# EAGLE library part SN74ALVCH16374 (library PTS_Board_Lib)
Edge-Triggered D-Type Flip-Flop w/ 3-State Outputs
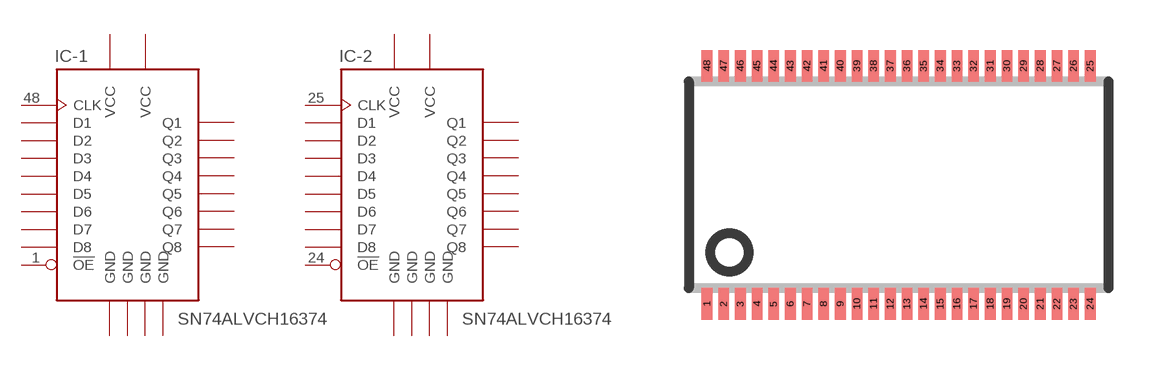
[diagram p0: symbol with the pads of TSSOP48; footprint TSSOP48]

Designator prefix IC; gates -1=SN74ALVCH16374 -2=SN74ALVCH16374

## SN74ALVCH16374DGG  [TSSOP48]
1  -1:!OE  in
2  -1:Q1  out
3  -1:Q2  out
4  -1:GND  pwr
5  -1:Q3  out
6  -1:Q4  out
7  -1:VCC  pwr
8  -1:Q5  out
9  -1:Q6  out
10  -1:GND  pwr
11  -1:Q7  out
12  -1:Q8  out
13  -2:Q1  out
14  -2:Q2  out
15  -2:GND  pwr
16  -2:Q3  out
17  -2:Q4  out
18  -2:VCC  pwr
19  -2:Q5  out
20  -2:Q6  out
21  -2:GND  pwr
22  -2:Q7  out
23  -2:Q8  out
24  -2:!OE  in
25  -2:CLK  in
26  -2:D8  in
27  -2:D7  in
28  -2:GND  pwr
29  -2:D6  in
30  -2:D5  in
31  -2:VCC  pwr
32  -2:D4  in
33  -2:D3  in
34  -2:GND  pwr
35  -2:D2  in
36  -2:D1  in
37  -1:D8  in
38  -1:D7  in
39  -1:GND  pwr
40  -1:D6  in
41  -1:D5  in
42  -1:VCC  pwr
43  -1:D4  in
44  -1:D3  in
45  -1:GND  pwr
46  -1:D2  in
47  -1:D1  in
48  -1:CLK  in

## Footprint TSSOP48 (pad centres in mm)
smd 0.32 x 0.95: 1 -5.75,-3.575; 2 -5.25,-3.575; 3 -4.75,-3.575; 4 -4.25,-3.575; 5 -3.75,-3.575; 6 -3.25,-3.575; 7 -2.75,-3.575; 8 -2.25,-3.575; 9 -1.75,-3.575; 10 -1.25,-3.575; 11 -0.75,-3.575; 12 -0.25,-3.575; 13 0.25,-3.575; 14 0.75,-3.575; 15 1.25,-3.575; 16 1.75,-3.575; 17 2.25,-3.575; 18 2.75,-3.575; 19 3.25,-3.575; 20 3.75,-3.575; 21 4.25,-3.575; 22 4.75,-3.575; 23 5.25,-3.575; 24 5.75,-3.575; 25 5.75,3.575; 26 5.25,3.575; 27 4.75,3.575; 28 4.25,3.575; 29 3.75,3.575; 30 3.25,3.575; 31 2.75,3.575; 32 2.25,3.575; 33 1.75,3.575; 34 1.25,3.575; 35 0.75,3.575; 36 0.25,3.575; 37 -0.25,3.575; 38 -0.75,3.575; 39 -1.25,3.575; 40 -1.75,3.575; 41 -2.25,3.575; 42 -2.75,3.575; 43 -3.25,3.575; 44 -3.75,3.575; 45 -4.25,3.575; 46 -4.75,3.575; 47 -5.25,3.575; 48 -5.75,3.575